# Altium footprint library 晶振.PcbLib: 19 footprints (part 2 of 2)
Each footprint in its own frame and in the unit in brackets; x right, y up, seen from the top. Pads: shape width x height; smd on the part's side, far side on the other; paste and mask are expansions set on the pad; w line width, h text height; cw(c..) or ccw(c..) is an arc to the next point about the centre after c.
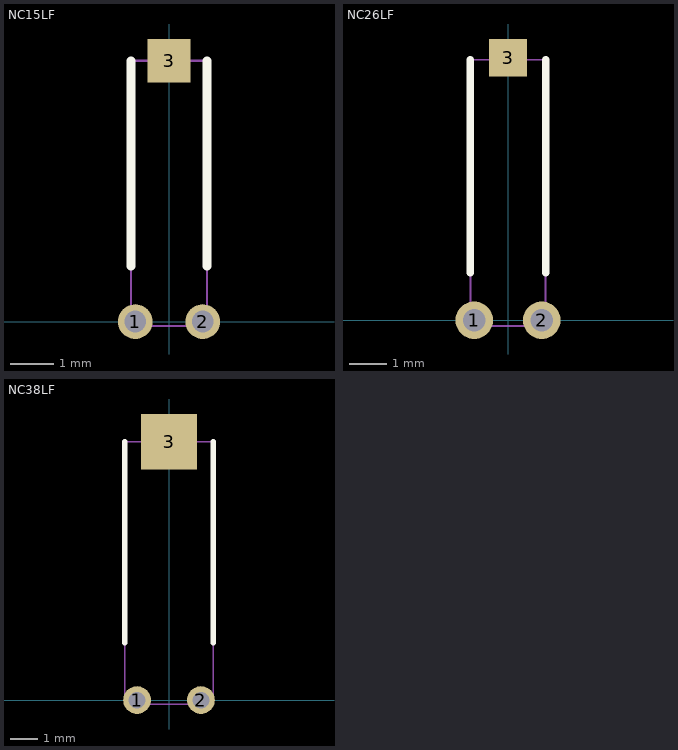
[diagram p1: the footprints below, top view; thin cyan lines are the x and y axes]

## NC15LF [mm] "32768Hz圆柱形晶振"
height 1.5
pads (3):
  round 0.8 hole 0.5: 1(-0.775,0) 2(0.775,0)
  rect 1x1 smd: 3(0,6)
Top Overlay:
  lines w0.2: -0.875,1.27 -0.875,6 ; 0.875,1.27 0.875,6
Mechanical 13:
  lines w0.05: -0.875,-0.1 0.875,-0.1 0.875,6 -0.875,6 -0.875,-0.1
3D body: height 1.56, standoff -3.95, extent -0.875,-0.1 0.875,6

## NC26LF [mm] "32768Hz圆柱形晶振"
height 2
pads (3):
  round 1 hole 0.6: 1(-0.9,0) 2(0.9,0)
  rect 1x1 smd: 3(0,7)
Top Overlay:
  lines w0.2: -1,1.27 -1,6.948 ; 1,1.27 1,6.948
Mechanical 13:
  lines w0.05: -1,-0.152 -1,6.948 1,6.948 1,-0.152 -1,-0.152
3D body: height 2, standoff -3.5, extent -1,-0.152 1,6.948

## NC38LF [mm] "32768Hz圆柱形晶振"
height 3.2
pads (3):
  round 1 hole 0.6: 1(-1.15,0) 2(1.15,0)
  rect 2x2 smd: 3(0,9.3)
Top Overlay:
  lines w0.2: -1.6,2.057 -1.6,9.298 ; 1.6,2.057 1.6,9.298
Mechanical 13:
  lines w0.05: -1.6,-0.152 1.6,-0.152 1.6,9.298 -1.6,9.298 -1.6,-0.152
3D body: height 3.2, standoff -3.5, extent -1.6,-0.152 1.6,9.298